# Altium footprint library Break Board.PcbLib: 3 footprints
Each footprint in its own frame and in the unit in brackets; x right, y up, seen from the top. Pads: shape width x height; smd on the part's side, far side on the other; paste and mask are expansions set on the pad; w line width, h text height; cw(c..) or ccw(c..) is an arc to the next point about the centre after c.
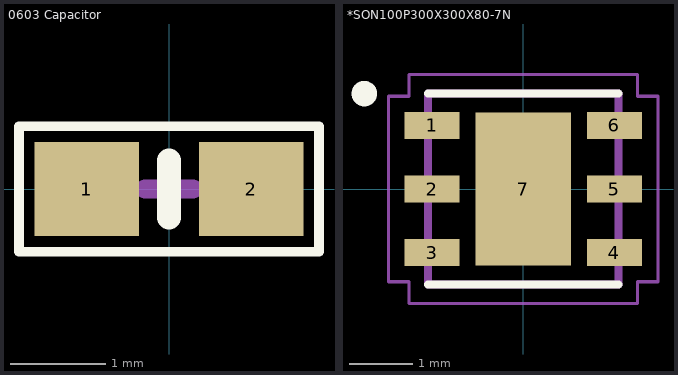
[diagram p0: the footprints below, top view; thin cyan lines are the x and y axes]

## 0603 Capacitor [mil]
pads (2):
  rect 43x39 smd: 1(-34,0) 2(34,0)
Top Overlay:
  lines w3.94: -62,-26 62,-26 62,26 -62,26 -62,-26
  lines w10: 0,-11.81 0,11.81
Mechanical 15:
  lines w7.87: -9.84,0 9.84,0 ; 0,-9.84 0,9.84
3D body "0603 cap.STEP": height 32.44, standoff 0, extent -31.49,-16.22 31.5,16.23

## *SON100P300X300X80-7N [mm]
pads (7):
  rect 0.86x0.42 smd: 1(-1.435,1) 2(-1.435,0) 3(-1.435,-1) 4(1.435,-1) 5(1.435,0) 6(1.435,1)
  rect 1.5x2.4 smd: 7(0,0)
Top Overlay:
  circle w0.2: c-2.5,1.5 r0.1
  lines w0.127: -1.5,-1.5 1.5,-1.5 ; -1.5,1.5 1.5,1.5
Top Paste:
  region: -0.486,1.02 0.485,1.02 0.485,0.09 -0.486,0.09
  region: -0.485,-0.09 0.485,-0.09 0.485,-1.021 -0.485,-1.021
Mechanical 4:
  lines w0.127: -1.5,-1.5 1.5,-1.5 ; -1.5,-1.5 -1.5,1.5 ; -1.5,-1.5 1.5,-1.5 ; -1.5,-1.5 -1.5,1.5 ; -1.5,1.5 1.5,1.5 ; -1.5,1.5 1.5,1.5 ; 1.5,-1.5 1.5,1.5 ; 1.5,-1.5 1.5,1.5
Mechanical 16:
  lines w0.05: -2.12,-1.46 -1.8,-1.46 -1.8,-1.8 1.8,-1.8 1.8,-1.46 2.12,-1.46 2.12,1.46 1.8,1.46 1.8,1.8 -1.8,1.8 -1.8,1.46 -2.12,1.46 -2.12,-1.46
3D body "HDC2080DMBR--3DModel-STEP-56544.STEP": height 0.75, standoff -0.05, extent -1.5,-1.5 1.5,1.5

## PCBComponent_1 [mm]